# EAGLE library part ADCMP582 (library meng)
Ultrafast SiGe Voltage Comparator w/. PECL Outputs http://www.analog.com/media/en/technical-documentation/data-sheets/ADCMP580_581_582.pdf
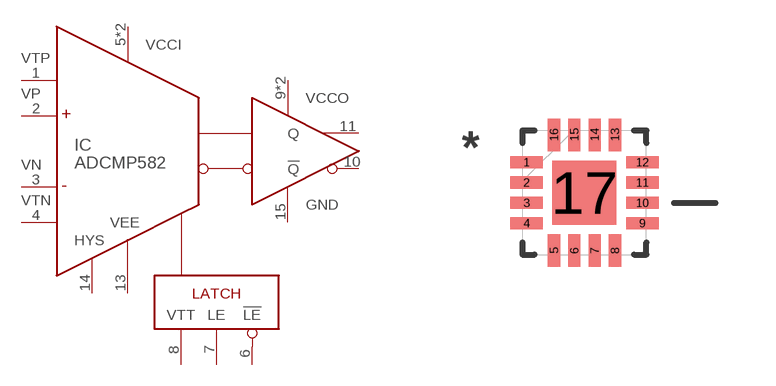
[diagram p0: symbol with the pads of QFN50P300X300X80-16N; footprint QFN50P300X300X80-16N]

Designator prefix IC

## ADCMP582  [QFN50P300X300X80-16N]
1  VTP
2  VP
3  VN
4  VTN
5  VCCI
6  !LE
7  LE
8  VTT
9  VCCO
10  !Q
11  Q
12  VCCO
13  VEE
14  HYS
15  GND
16  VCCI

## Footprint QFN50P300X300X80-16N (pad centres in mm)
smd 0.813 x 0.305: 1 -1.448,0.762; 2 -1.448,0.254; 3 -1.448,-0.254; 4 -1.448,-0.762; 9 1.448,-0.762; 10 1.448,-0.254; 11 1.448,0.254; 12 1.448,0.762
smd 0.305 x 0.813: 5 -0.762,-1.448; 6 -0.254,-1.448; 7 0.254,-1.448; 8 0.762,-1.448; 13 0.762,1.448; 14 0.254,1.448; 15 -0.254,1.448; 16 -0.762,1.448
smd 1.6 x 1.6: 17 0,0